# EAGLE library part TDA7491HV (library gee_s)
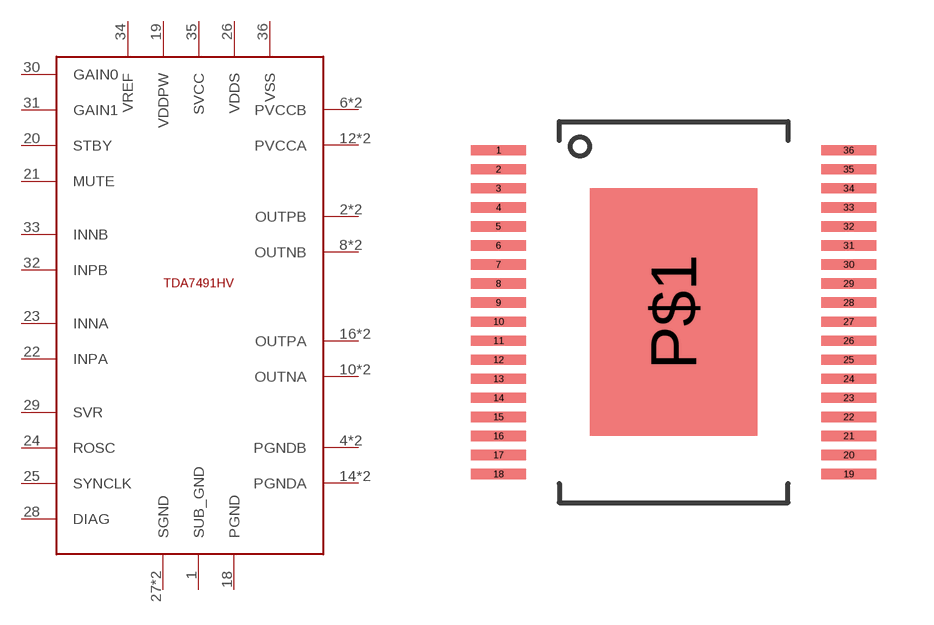
[diagram p21: symbol with the pads of POWERSSO-36; footprint POWERSSO-36]

Designator prefix -

## TDA7491HV  [POWERSSO-36]
1  SUB_GND
2  OUTPB
3  OUTPB
4  PGNDB
5  PGNDB
6  PVCCB
7  PVCCB
8  OUTNB
9  OUTNB
10  OUTNA
11  OUTNA
12  PVCCA
13  PVCCA
14  PGNDA
15  PGNDA
16  OUTPA
17  OUTPA
18  PGND
19  VDDPW
20  STBY
21  MUTE
22  INPA
23  INNA
24  ROSC
25  SYNCLK
26  VDDS
27  SGND
28  DIAG
29  SVR
30  GAIN0
31  GAIN1
32  INPB
33  INNB
34  VREF
35  SVCC
36  VSS
P$1  SGND

## Footprint POWERSSO-36 (pad centres in mm)
smd 1.45 x 0.27: 1 -4.6,4.25; 2 -4.6,3.75; 3 -4.6,3.25; 4 -4.6,2.75; 5 -4.6,2.25; 6 -4.6,1.75; 7 -4.6,1.25; 8 -4.6,0.75; 9 -4.6,0.25; 10 -4.6,-0.25; 11 -4.6,-0.75; 12 -4.6,-1.25; 13 -4.6,-1.75; 14 -4.6,-2.25; 15 -4.6,-2.75; 16 -4.6,-3.25; 17 -4.6,-3.75; 18 -4.6,-4.25; 19 4.6,-4.25; 20 4.6,-3.75; 21 4.6,-3.25; 22 4.6,-2.75; 23 4.6,-2.25; 24 4.6,-1.75; 25 4.6,-1.25; 26 4.6,-0.75; 27 4.6,-0.25; 28 4.6,0.25; 29 4.6,0.75; 30 4.6,1.25; 31 4.6,1.75; 32 4.6,2.25; 33 4.6,2.75; 34 4.6,3.25; 35 4.6,3.75; 36 4.6,4.25
smd 4.4 x 6.5: P$1 0,0